# Altium schematic symbol library Schlib_Allegro.SchLib: 1 symbol
Pins are listed as number, name and electrical type; pins without a type are passive.

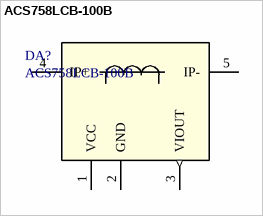
[diagram p0: symbol ACS758LCB-100B]

## ACS758LCB-100B
designator DA?
Thermally Enhanced, Fully Integrated, Hall Effect-Based Linear Current Sensor IC with 100 μΩ Current Conductor; Manufacturer: Allegro MicroSystems; Part Number: ACS758LCB-100B
footprint ACS758
pins: 1 VCC (power), 2 GND (power), 3 VIOUT (out), 4 IP+ (power), 5 IP- (power)